# EAGLE library part IC_MEM_93C46 (library dp_devices)
Serial EEPROM 1K
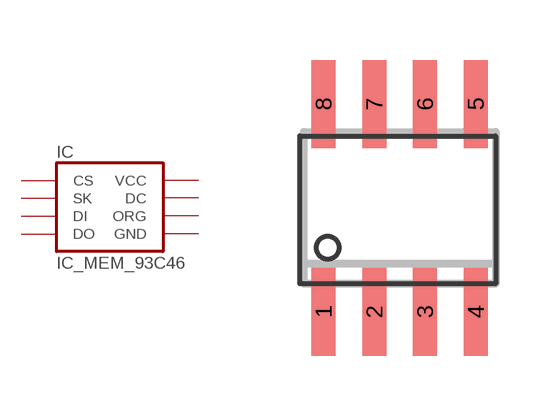
[diagram p53: symbol with the pads of SOIC-8; footprint SOIC-8]

Designator prefix IC

## IC_MEM_93C46 (93C46: 93C46)  [SOIC-8]
1  CS
2  SK
3  DI
4  DO
5  GND
6  ORG
7  DC
8  VCC

## Footprint SOIC-8 (pad centres in mm)
smd 0.6 x 2.2: 1 -1.905,-2.6; 2 -0.635,-2.6; 3 0.635,-2.6; 4 1.905,-2.6; 5 1.905,2.6; 6 0.635,2.6; 7 -0.635,2.6; 8 -1.905,2.6